# Altium integrated library Atmel Analog Companions.IntLib: 14 symbols
Pins are listed as number, name and electrical type; pins without a type are passive.

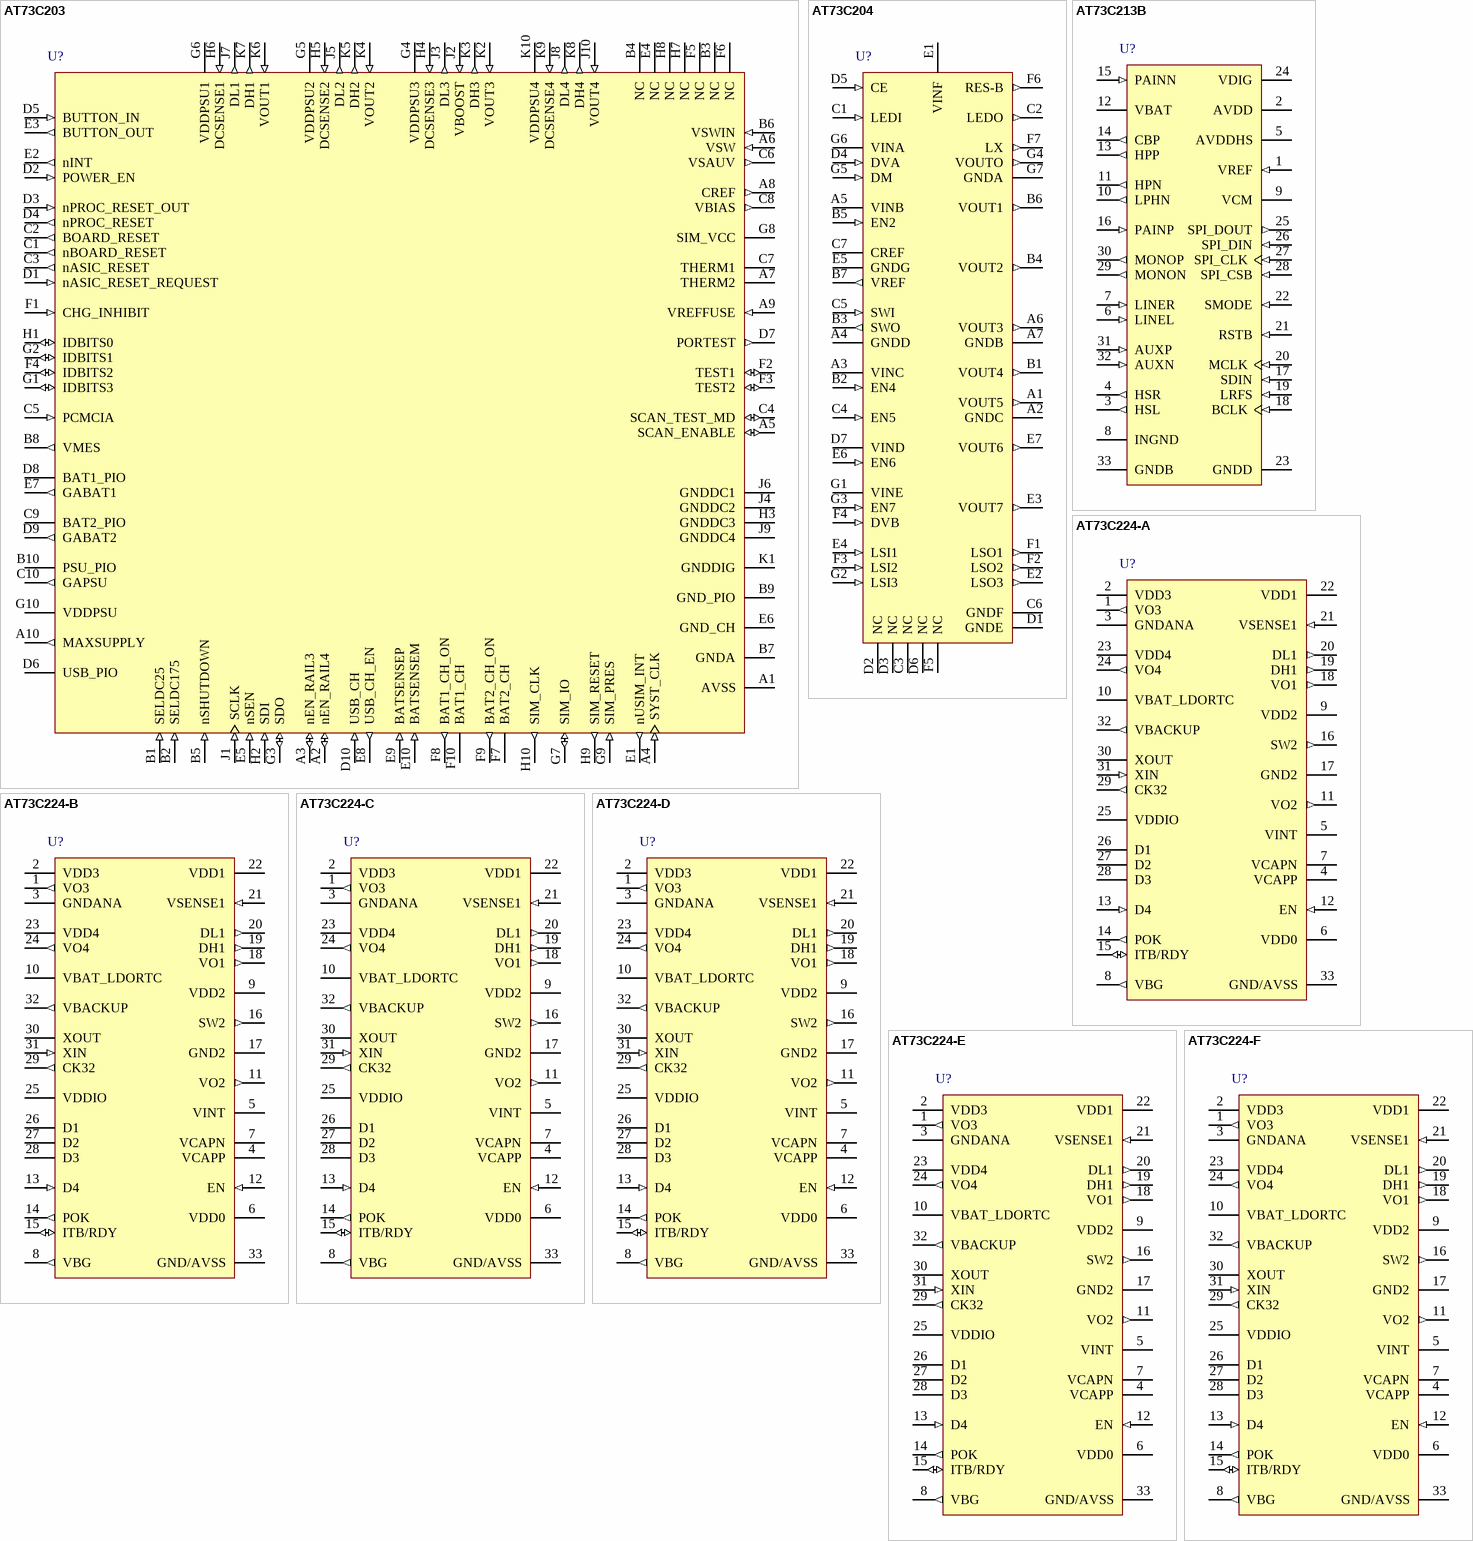
[diagram p0: symbols AT73C203 to AT73C224-F]

## AT73C203
designator U?
Power Management IC for Datacom Platforms, TFBGA100 Pkg; Published: 20-Sep-2010; DatasheetVersion: Mar-2004; PackageVersion: 2004; PackageReference: TFBGA100; Publisher: Altium Limited; PackageDescription: 100-Ball Thin Fine Ball Grid Array, 9 x 9 x1.1 mm Body, 0.80 mm Pitch; Supplier 1: Mouser; Supplier Part Number 1: 556-AT73C203; ComponentLink1Description: Manufacturer Link; ComponentLink1URL: http://www.atmel.com/products/powermanage/default.asp?; ComponentLink2Description: Datasheet; ComponentLink2URL: http://www.atmel.com/dyn/resources/prod_documents/doc2742.pdf; ComponentLink3Description: Atmel.com Home; ComponentLink3URL: http://www.atmel.com
footprint TFBGA100 (BGA, 100-Leads, Body 9x9mm, Pitch 0.8mm)
pins: A1 AVSS (power), A2 nEN_RAIL4 (io), A3 nEN_RAIL3 (io), A4 SYST_CLK (in), A5 SCAN_ENABLE (io), A6 VSW (in), A7 THERM2, A8 CREF (out), A9 VREFFUSE (in), A10 MAXSUPPLY (out), B1 SELDC25 (in), B2 SELDC175 (in), B3 NC, B4 NC, B5 nSHUTDOWN (in), B6 VSWIN (in), B7 GNDA (power), B8 VMES (out), B9 GND_PIO (power), B10 PSU_PIO (power), C1 nBOARD_RESET (out), C2 BOARD_RESET (out), C3 nASIC_RESET (out), C4 SCAN_TEST_MD (io), C5 PCMCIA (in), C6 VSAUV (out), C7 THERM1, C8 VBIAS (out), C9 BAT2_PIO (power), C10 GAPSU (out), D1 nASIC_RESET_REQUEST (in), D2 POWER_EN (in), D3 nPROC_RESET_OUT (in), D4 nPROC_RESET (out), D5 BUTTON_IN (in), D6 USB_PIO (power), D7 PORTEST (out), D8 BAT1_PIO (power), D9 GABAT2 (out), D10 USB_CH (in), E1 nUSIM_INT (out), E2 nINT (out), E3 BUTTON_OUT (out), E4 NC, E5 nSEN (in), E6 GND_CH (power), E7 GABAT1 (out), E8 USB_CH_EN (out), E9 BATSENSEP (in), E10 BATSENSEM (in), F1 CHG_INHIBIT (in), F2 TEST1 (io), F3 TEST2 (io), F4 IDBITS2 (io), F5 NC, F6 NC, F7 BAT2_CH (power), F8 BAT1_CH_ON (out), F9 BAT2_CH_ON (out), F10 BAT1_CH (power), G1 IDBITS3 (io), G2 IDBITS1 (io), G3 SDO (io), G4 VDDPSU3 (power), G5 VDDPSU2 (power), G6 VDDPSU1 (power), G7 SIM_IO (io), G8 SIM_VCC (power), G9 SIM_PRES (in), G10 VDDPSU (power), H1 IDBITS0 (io), H2 SDI (in), H3 GNDDC3 (power), H4 DCSENSE3 (in), H5 DCSENSE2 (in), H6 DCSENSE1 (in), H7 NC, H8 NC, H9 SIM_RESET (out), H10 SIM_CLK (out), J1 SCLK (in), J2 VBOOST (in), J3 DL3 (out), J4 GNDDC2 (power), J5 DL2 (out), J6 GNDDC1 (power), J7 DL1 (out), J8 DL4 (out), J9 GNDDC4 (power), J10 VOUT4 (in), K1 GNDDIG (power), K2 VOUT3 (in), K3 DH3 (out), K4 VOUT2 (in), K5 DH2 (out), K6 VOUT1 (in), K7 DH1 (out), K8 DH4 (out), K9 DCSENSE4 (in), K10 VDDPSU4 (power)

## AT73C204
designator U?
Power Management for Mobiles, TFBGA49 Pkg; Published: 20-Sep-2010; DatasheetVersion: Oct-2003; PackageVersion: 2003; PackageReference: TFBGA49; Publisher: Altium Limited; PackageDescription: 49-Ball Fine-Pitch BGA, 5 x 5 x 1.2 mm Body, 0.65 mm Pitch; Supplier 1: Mouser; Supplier Part Number 1: 556-AT73C204; ComponentLink1Description: Manufacturer Link; ComponentLink1URL: http://www.atmel.com/products/powermanage/default.asp?; ComponentLink2Description: Datasheet; ComponentLink2URL: http://www.atmel.com/dyn/resources/prod_documents/doc6014.pdf; ComponentLink3Description: Atmel.com Home; ComponentLink3URL: http://www.atmel.com
footprint TFBGA49 (BGA, 49-Leads, Body 5x5mm, Pitch 0.65mm)
pins: A1 VOUT5 (out), A2 GNDC (power), A3 VINC (power), A4 GNDD (power), A5 VINB (power), A6 VOUT3 (out), A7 GNDB (power), B1 VOUT4 (out), B2 EN4 (in), B3 SWO (out), B4 VOUT2 (out), B5 EN2 (in), B6 VOUT1 (out), B7 VREF (out), C1 LEDI (in), C2 LEDO (out), C3 NC, C4 EN5 (in), C5 SWI (in), C6 GNDF (power), C7 CREF, D1 GNDE (power), D2 NC, D3 NC, D4 DVA (in), D5 CE (in), D6 NC, D7 VIND (power), E1 VINF (power), E2 LSO3 (out), E3 VOUT7 (out), E4 LSI1 (in), E5 GNDG (power), E6 EN6 (in), E7 VOUT6 (out), F1 LSO1 (out), F2 LSO2 (out), F3 LSI2 (in), F4 DVB (in), F5 NC, F6 RES-B (out), F7 LX (out), G1 VINE (power), G2 LSI3 (in), G3 EN7 (in), G4 VOUTO (out), G5 DM (in), G6 VINA (power), G7 GNDA (power)

## AT73C213B
designator U?
Stereo Audio DAC and Audio Power Amplifier Circuit for Battery Powered Handheld Devices, QFN32 Pkg; Published: 20-Sep-2010; DatasheetVersion: revA, Apr-2008; PackageVersion: 2008; PackageReference: QFN-32; Publisher: Altium Limited; PackageDescription: 32-Pin Quad Flat No-Lead, 7 x 7 x 0.9 mm Body, 0.65 mm Pitch, 5.5 mm Exposed Pad; Supplier 1: Digi-Key; Supplier Part Number 1: AT73C213B-ND; Supplier 2: Mouser; Supplier Part Number 2: 556-AT73C213B; Code_JEDEC: MO-220; ComponentLink1Description: Manufacturer Link; ComponentLink1URL: http://www.atmel.com/products/powermanage/default.asp?; ComponentLink2Description: Datasheet; ComponentLink2URL: http://www.atmel.com/dyn/resources/prod_documents/doc6407.pdf; ComponentLink3Description: Atmel.com Home; ComponentLink3URL: http://www.atmel.com
footprint QFN-32_N (QFN, 32-Leads, Body 7x7 mm, Pitch 0.65mm, IPC Medium Density)
footprint QFN-32_L (QFN, 32-Leads, Body 7x7 mm, Pitch 0.65mm, IPC High Density)
footprint QFN-32_M (QFN, 32-Leads, Body 7x7 mm, Pitch 0.65mm, IPC Low Density)
pins: 1 VREF (in), 2 AVDD (power), 3 HSL (out), 4 HSR (out), 5 AVDDHS (power), 6 LINEL (in), 7 LINER (in), 8 INGND (power), 9 VCM, 10 LPHN (out), 11 HPN (out), 12 VBAT (power), 13 HPP (out), 14 CBP (out), 15 PAINN (in), 16 PAINP (in), 17 SDIN (in), 18 BCLK (in), 19 LRFS (in), 20 MCLK (in), 21 RSTB (in), 22 SMODE (in), 23 GNDD (power), 24 VDIG (power), 25 SPI_DOUT (out), 26 SPI_DIN (in), 27 SPI_CLK (in), 28 SPI_CSB (in), 29 MONON (out), 30 MONOP (out), 31 AUXP (in), 32 AUXN (in), 33 GNDB (power)

## AT73C224-A
designator U?
4 Channel Power Supply with DC/DC Boost, BUCK2=1.8V, LDO4=2.8V, LDO3=2.7V, Dynamic Management Mode, QFN32 Pkg; Published: 20-Sep-2010; DatasheetVersion: revA, Sep-2008; PackageVersion: 2008; PackageReference: RQFN032_H; Publisher: Altium Limited; PackageDescription: 32-Pin Quad Flat No-Lead (QFN) Sawn,  5 x 5 x 0.9 mm Body, Pitch 0.50 mm, 3.50mm Exposed Pad; Supplier 1: Digi-Key; Supplier Part Number 1: AT73C224-A-ND; Supplier 2: Mouser; Supplier Part Number 2: 556-AT73C224-A; ComponentLink1Description: Manufacturer Link; ComponentLink1URL: http://www.atmel.com/products/powermanage/default.asp?; ComponentLink2Description: Datasheet; ComponentLink2URL: http://www.atmel.com/dyn/resources/prod_documents/doc6266.pdf; ComponentLink3Description: Atmel.com Home; ComponentLink3URL: http://www.atmel.com
footprint RQFN032_H_N (QFN, 32-Leads, Body 5x5mm, Pitch 0.5mm, IPC Medium Density)
footprint RQFN032_H_L (QFN, 32-Leads, Body 5x5mm, Pitch 0.5mm, IPC High Density)
footprint RQFN032_H_M (QFN, 32-Leads, Body 5x5mm, Pitch 0.5mm, IPC Low Density)
pins: 1 VO3 (out), 2 VDD3 (power), 3 GNDANA (power), 4 VCAPP, 5 VINT (power), 6 VDD0 (power), 7 VCAPN, 8 VBG (out), 9 VDD2 (power), 10 VBAT_LDORTC (power), 11 VO2 (out), 12 EN (in), 13 D4 (in), 14 POK (out), 15 ITB/RDY (io), 16 SW2 (out), 17 GND2 (power), 18 VO1 (out), 19 DH1 (out), 20 DL1 (out), 21 VSENSE1 (in), 22 VDD1 (power), 23 VDD4 (power), 24 VO4 (out), 25 VDDIO (power), 26 D1 (oc), 27 D2 (oc), 28 D3 (oc), 29 CK32 (out), 30 XOUT, 31 XIN (in), 32 VBACKUP (out), 33 GND/AVSS (power)

## AT73C224-B
designator U?
4 Channel Power Supply with DC/DC Boost, BUCK2=1.2V, LDO4=1.8V, LDO3=1.7V, Dynamic Management Mode, QFN32 Pkg; Published: 20-Sep-2010; DatasheetVersion: revA, Sep-2008; PackageVersion: 2008; PackageReference: RQFN032_H; Publisher: Altium Limited; PackageDescription: 32-Pin Quad Flat No-Lead (QFN) Sawn,  5 x 5 x 0.9 mm Body, Pitch 0.50 mm, 3.50mm Exposed Pad; ComponentLink1Description: Manufacturer Link; ComponentLink1URL: http://www.atmel.com/products/powermanage/default.asp?; ComponentLink2Description: Datasheet; ComponentLink2URL: http://www.atmel.com/dyn/resources/prod_documents/doc6266.pdf; ComponentLink3Description: Atmel.com Home; ComponentLink3URL: http://www.atmel.com
footprint RQFN032_H_N (QFN, 32-Leads, Body 5x5mm, Pitch 0.5mm, IPC Medium Density)
footprint RQFN032_H_L (QFN, 32-Leads, Body 5x5mm, Pitch 0.5mm, IPC High Density)
footprint RQFN032_H_M (QFN, 32-Leads, Body 5x5mm, Pitch 0.5mm, IPC Low Density)
pins: 1 VO3 (out), 2 VDD3 (power), 3 GNDANA (power), 4 VCAPP, 5 VINT (power), 6 VDD0 (power), 7 VCAPN, 8 VBG (out), 9 VDD2 (power), 10 VBAT_LDORTC (power), 11 VO2 (out), 12 EN (in), 13 D4 (in), 14 POK (out), 15 ITB/RDY (io), 16 SW2 (out), 17 GND2 (power), 18 VO1 (out), 19 DH1 (out), 20 DL1 (out), 21 VSENSE1 (in), 22 VDD1 (power), 23 VDD4 (power), 24 VO4 (out), 25 VDDIO (power), 26 D1 (oc), 27 D2 (oc), 28 D3 (oc), 29 CK32 (out), 30 XOUT, 31 XIN (in), 32 VBACKUP (out), 33 GND/AVSS (power)

## AT73C224-C
designator U?
4 Channel Power Supply with DC/DC Boost, LDO4=2.8V, BUCK2=1.8V, LDO3=2.7V, Dynamic Management Mode, QFN32 Pkg; Published: 20-Sep-2010; DatasheetVersion: revA, Sep-2008; PackageVersion: 2008; PackageReference: RQFN032_H; Publisher: Altium Limited; PackageDescription: 32-Pin Quad Flat No-Lead (QFN) Sawn,  5 x 5 x 0.9 mm Body, Pitch 0.50 mm, 3.50mm Exposed Pad; ComponentLink1Description: Manufacturer Link; ComponentLink1URL: http://www.atmel.com/products/powermanage/default.asp?; ComponentLink2Description: Datasheet; ComponentLink2URL: http://www.atmel.com/dyn/resources/prod_documents/doc6266.pdf; ComponentLink3Description: Atmel.com Home; ComponentLink3URL: http://www.atmel.com
footprint RQFN032_H_N (QFN, 32-Leads, Body 5x5mm, Pitch 0.5mm, IPC Medium Density)
footprint RQFN032_H_L (QFN, 32-Leads, Body 5x5mm, Pitch 0.5mm, IPC High Density)
footprint RQFN032_H_M (QFN, 32-Leads, Body 5x5mm, Pitch 0.5mm, IPC Low Density)
pins: 1 VO3 (out), 2 VDD3 (power), 3 GNDANA (power), 4 VCAPP, 5 VINT (power), 6 VDD0 (power), 7 VCAPN, 8 VBG (out), 9 VDD2 (power), 10 VBAT_LDORTC (power), 11 VO2 (out), 12 EN (in), 13 D4 (in), 14 POK (out), 15 ITB/RDY (io), 16 SW2 (out), 17 GND2 (power), 18 VO1 (out), 19 DH1 (out), 20 DL1 (out), 21 VSENSE1 (in), 22 VDD1 (power), 23 VDD4 (power), 24 VO4 (out), 25 VDDIO (power), 26 D1 (oc), 27 D2 (oc), 28 D3 (oc), 29 CK32 (out), 30 XOUT, 31 XIN (in), 32 VBACKUP (out), 33 GND/AVSS (power)

## AT73C224-D
designator U?
4 Channel Power Supply with DC/DC Boost, LDO4=1.8V, BUCK2=1.2V, LDO3=1.8V, Dynamic Management Mode, QFN32 Pkg; Published: 20-Sep-2010; DatasheetVersion: revA, Sep-2008; PackageVersion: 2008; PackageReference: RQFN032_H; Publisher: Altium Limited; PackageDescription: 32-Pin Quad Flat No-Lead (QFN) Sawn,  5 x 5 x 0.9 mm Body, Pitch 0.50 mm, 3.50mm Exposed Pad; ComponentLink1Description: Manufacturer Link; ComponentLink1URL: http://www.atmel.com/products/powermanage/default.asp?; ComponentLink2Description: Datasheet; ComponentLink2URL: http://www.atmel.com/dyn/resources/prod_documents/doc6266.pdf; ComponentLink3Description: Atmel.com Home; ComponentLink3URL: http://www.atmel.com
footprint RQFN032_H_N (QFN, 32-Leads, Body 5x5mm, Pitch 0.5mm, IPC Medium Density)
footprint RQFN032_H_L (QFN, 32-Leads, Body 5x5mm, Pitch 0.5mm, IPC High Density)
footprint RQFN032_H_M (QFN, 32-Leads, Body 5x5mm, Pitch 0.5mm, IPC Low Density)
pins: 1 VO3 (out), 2 VDD3 (power), 3 GNDANA (power), 4 VCAPP, 5 VINT (power), 6 VDD0 (power), 7 VCAPN, 8 VBG (out), 9 VDD2 (power), 10 VBAT_LDORTC (power), 11 VO2 (out), 12 EN (in), 13 D4 (in), 14 POK (out), 15 ITB/RDY (io), 16 SW2 (out), 17 GND2 (power), 18 VO1 (out), 19 DH1 (out), 20 DL1 (out), 21 VSENSE1 (in), 22 VDD1 (power), 23 VDD4 (power), 24 VO4 (out), 25 VDDIO (power), 26 D1 (oc), 27 D2 (oc), 28 D3 (oc), 29 CK32 (out), 30 XOUT, 31 XIN (in), 32 VBACKUP (out), 33 GND/AVSS (power)

## AT73C224-E
designator U?
4 Channel Power Supply with DC/DC Boost, BOOST1=5.2V, LDO4=3.3V, LDO3=3V, Dynamic Management Mode, QFN32 Pkg; Published: 20-Sep-2010; DatasheetVersion: revA, Sep-2008; PackageVersion: 2008; PackageReference: RQFN032_H; Publisher: Altium Limited; PackageDescription: 32-Pin Quad Flat No-Lead (QFN) Sawn,  5 x 5 x 0.9 mm Body, Pitch 0.50 mm, 3.50mm Exposed Pad; ComponentLink1Description: Manufacturer Link; ComponentLink1URL: http://www.atmel.com/products/powermanage/default.asp?; ComponentLink2Description: Datasheet; ComponentLink2URL: http://www.atmel.com/dyn/resources/prod_documents/doc6266.pdf; ComponentLink3Description: Atmel.com Home; ComponentLink3URL: http://www.atmel.com
footprint RQFN032_H_N (QFN, 32-Leads, Body 5x5mm, Pitch 0.5mm, IPC Medium Density)
footprint RQFN032_H_L (QFN, 32-Leads, Body 5x5mm, Pitch 0.5mm, IPC High Density)
footprint RQFN032_H_M (QFN, 32-Leads, Body 5x5mm, Pitch 0.5mm, IPC Low Density)
pins: 1 VO3 (out), 2 VDD3 (power), 3 GNDANA (power), 4 VCAPP, 5 VINT (power), 6 VDD0 (power), 7 VCAPN, 8 VBG (out), 9 VDD2 (power), 10 VBAT_LDORTC (power), 11 VO2 (out), 12 EN (in), 13 D4 (in), 14 POK (out), 15 ITB/RDY (io), 16 SW2 (out), 17 GND2 (power), 18 VO1 (out), 19 DH1 (out), 20 DL1 (out), 21 VSENSE1 (in), 22 VDD1 (power), 23 VDD4 (power), 24 VO4 (out), 25 VDDIO (power), 26 D1 (oc), 27 D2 (oc), 28 D3 (oc), 29 CK32 (out), 30 XOUT, 31 XIN (in), 32 VBACKUP (out), 33 GND/AVSS (power)

## AT73C224-F
designator U?
4 Channel Power Supply with DC/DC Boost, BUCK2=1.8V, LDO4=2.8V, LDO3=2.7V, Static Management Mode, QFN32 Pkg; Published: 20-Sep-2010; DatasheetVersion: revA, Sep-2008; PackageVersion: 2008; PackageReference: RQFN032_H; Publisher: Altium Limited; PackageDescription: 32-Pin Quad Flat No-Lead (QFN) Sawn,  5 x 5 x 0.9 mm Body, Pitch 0.50 mm, 3.50mm Exposed Pad; ComponentLink1Description: Manufacturer Link; ComponentLink1URL: http://www.atmel.com/products/powermanage/default.asp?; ComponentLink2Description: Datasheet; ComponentLink2URL: http://www.atmel.com/dyn/resources/prod_documents/doc6266.pdf; ComponentLink3Description: Atmel.com Home; ComponentLink3URL: http://www.atmel.com
footprint RQFN032_H_N (QFN, 32-Leads, Body 5x5mm, Pitch 0.5mm, IPC Medium Density)
footprint RQFN032_H_L (QFN, 32-Leads, Body 5x5mm, Pitch 0.5mm, IPC High Density)
footprint RQFN032_H_M (QFN, 32-Leads, Body 5x5mm, Pitch 0.5mm, IPC Low Density)
pins: 1 VO3 (out), 2 VDD3 (power), 3 GNDANA (power), 4 VCAPP, 5 VINT (power), 6 VDD0 (power), 7 VCAPN, 8 VBG (out), 9 VDD2 (power), 10 VBAT_LDORTC (power), 11 VO2 (out), 12 EN (in), 13 D4 (in), 14 POK (out), 15 ITB/RDY (io), 16 SW2 (out), 17 GND2 (power), 18 VO1 (out), 19 DH1 (out), 20 DL1 (out), 21 VSENSE1 (in), 22 VDD1 (power), 23 VDD4 (power), 24 VO4 (out), 25 VDDIO (power), 26 D1 (oc), 27 D2 (oc), 28 D3 (oc), 29 CK32 (out), 30 XOUT, 31 XIN (in), 32 VBACKUP (out), 33 GND/AVSS (power)

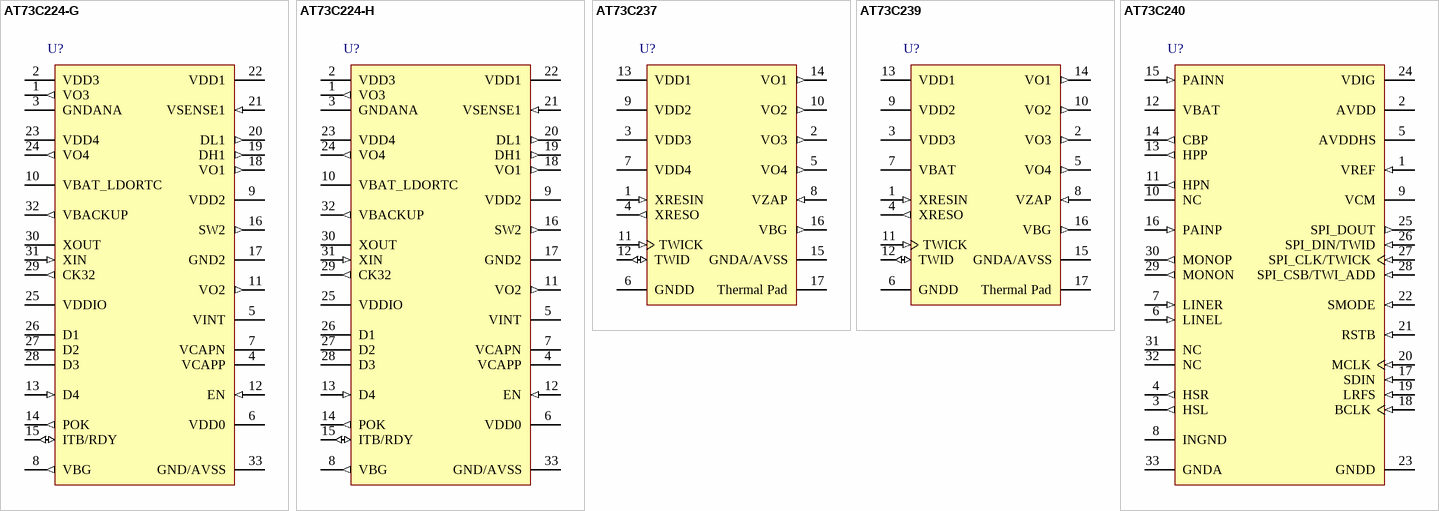
[diagram p1: symbols AT73C224-G to AT73C240]

## AT73C224-G
designator U?
4 Channel Power Supply with DC/DC Boost, LDO4=2.8V, BUCK2=1.8V, LDO3=2.7V, Static Management Mode, QFN32 Pkg; Published: 20-Sep-2010; DatasheetVersion: revA, Sep-2008; PackageVersion: 2008; PackageReference: RQFN032_H; Publisher: Altium Limited; PackageDescription: 32-Pin Quad Flat No-Lead (QFN) Sawn,  5 x 5 x 0.9 mm Body, Pitch 0.50 mm, 3.50mm Exposed Pad; ComponentLink1Description: Manufacturer Link; ComponentLink1URL: http://www.atmel.com/products/powermanage/default.asp?; ComponentLink2Description: Datasheet; ComponentLink2URL: http://www.atmel.com/dyn/resources/prod_documents/doc6266.pdf; ComponentLink3Description: Atmel.com Home; ComponentLink3URL: http://www.atmel.com
footprint RQFN032_H_N (QFN, 32-Leads, Body 5x5mm, Pitch 0.5mm, IPC Medium Density)
footprint RQFN032_H_L (QFN, 32-Leads, Body 5x5mm, Pitch 0.5mm, IPC High Density)
footprint RQFN032_H_M (QFN, 32-Leads, Body 5x5mm, Pitch 0.5mm, IPC Low Density)
pins: 1 VO3 (out), 2 VDD3 (power), 3 GNDANA (power), 4 VCAPP, 5 VINT (power), 6 VDD0 (power), 7 VCAPN, 8 VBG (out), 9 VDD2 (power), 10 VBAT_LDORTC (power), 11 VO2 (out), 12 EN (in), 13 D4 (in), 14 POK (out), 15 ITB/RDY (io), 16 SW2 (out), 17 GND2 (power), 18 VO1 (out), 19 DH1 (out), 20 DL1 (out), 21 VSENSE1 (in), 22 VDD1 (power), 23 VDD4 (power), 24 VO4 (out), 25 VDDIO (power), 26 D1 (oc), 27 D2 (oc), 28 D3 (oc), 29 CK32 (out), 30 XOUT, 31 XIN (in), 32 VBACKUP (out), 33 GND/AVSS (power)

## AT73C224-H
designator U?
4 Channel Power Supply with DC/DC Boost, BOOST1=5.2V, LDO4=3.3V, LDO3=3V, Static Management Mode, QFN32 Pkg; Published: 20-Sep-2010; DatasheetVersion: revA, Sep-2008; PackageVersion: 2008; PackageReference: RQFN032_H; Publisher: Altium Limited; PackageDescription: 32-Pin Quad Flat No-Lead (QFN) Sawn,  5 x 5 x 0.9 mm Body, Pitch 0.50 mm, 3.50mm Exposed Pad; ComponentLink1Description: Manufacturer Link; ComponentLink1URL: http://www.atmel.com/products/powermanage/default.asp?; ComponentLink2Description: Datasheet; ComponentLink2URL: http://www.atmel.com/dyn/resources/prod_documents/doc6266.pdf; ComponentLink3Description: Atmel.com Home; ComponentLink3URL: http://www.atmel.com
footprint RQFN032_H_N (QFN, 32-Leads, Body 5x5mm, Pitch 0.5mm, IPC Medium Density)
footprint RQFN032_H_L (QFN, 32-Leads, Body 5x5mm, Pitch 0.5mm, IPC High Density)
footprint RQFN032_H_M (QFN, 32-Leads, Body 5x5mm, Pitch 0.5mm, IPC Low Density)
pins: 1 VO3 (out), 2 VDD3 (power), 3 GNDANA (power), 4 VCAPP, 5 VINT (power), 6 VDD0 (power), 7 VCAPN, 8 VBG (out), 9 VDD2 (power), 10 VBAT_LDORTC (power), 11 VO2 (out), 12 EN (in), 13 D4 (in), 14 POK (out), 15 ITB/RDY (io), 16 SW2 (out), 17 GND2 (power), 18 VO1 (out), 19 DH1 (out), 20 DL1 (out), 21 VSENSE1 (in), 22 VDD1 (power), 23 VDD4 (power), 24 VO4 (out), 25 VDDIO (power), 26 D1 (oc), 27 D2 (oc), 28 D3 (oc), 29 CK32 (out), 30 XOUT, 31 XIN (in), 32 VBACKUP (out), 33 GND/AVSS (power)

## AT73C237
designator U?
4 Channel Power Management Unit for Wireless Modules, QFN16 Pkg; Published: 20-Sep-2010; DatasheetVersion: revA, Jul-2008; PackageVersion: 2008; PackageReference: QFN16; Publisher: Altium Limited; PackageDescription: 16-Pin Quad Flat No-Lead, 3 x 3 mm Body, 0.5 mm Pitch, 1.9 x 1.9 mm Exposed Pad; Supplier 1: Digi-Key; Supplier Part Number 1: AT73C237-ND; Supplier 2: Mouser; Supplier Part Number 2: 556-AT73C237; ComponentLink1Description: Manufacturer Link; ComponentLink1URL: http://www.atmel.com/products/powermanage/default.asp?; ComponentLink2Description: Datasheet; ComponentLink2URL: http://www.atmel.com/dyn/resources/prod_documents/doc6362.pdf; ComponentLink3Description: Atmel.com Home; ComponentLink3URL: http://www.atmel.com
footprint QFN16_N (QFN, 16-Leads, Body 3x3mm, Pitch 0.5mm, IPC Medium Density)
footprint QFN16_L (QFN, 16-Leads, Body 3x3mm, Pitch 0.5mm, IPC High Density)
footprint QFN16_M (QFN, 16-Leads, Body 3x3mm, Pitch 0.5mm, IPC Low Density)
pins: 1 XRESIN (in), 2 VO3 (out), 3 VDD3 (power), 4 XRESO (out), 5 VO4 (out), 6 GNDD (power), 7 VDD4 (power), 8 VZAP (in), 9 VDD2 (power), 10 VO2 (out), 11 TWICK (in), 12 TWID (io), 13 VDD1 (power), 14 VO1 (out), 15 GNDA/AVSS (power), 16 VBG (out), 17 Thermal Pad (power)

## AT73C239
designator U?
4 Channel Power Management Unit for Wireless Modules, QFN16 Pkg; Published: 20-Sep-2010; DatasheetVersion: revC, Jul-2007; PackageVersion: 2008; PackageReference: QFN16; Publisher: Altium Limited; PackageDescription: 16-Pin Quad Flat No-Lead, 3 x 3 mm Body, 0.5 mm Pitch, 1.9 x 1.9 mm Exposed Pad; Supplier 1: Digi-Key; Supplier Part Number 1: AT73C239-ND; Supplier 2: Mouser; Supplier Part Number 2: 556-AT73C239; ComponentLink1Description: Manufacturer Link; ComponentLink1URL: http://www.atmel.com/products/powermanage/default.asp?; ComponentLink2Description: Datasheet; ComponentLink2URL: http://www.atmel.com/dyn/resources/prod_documents/doc6201.pdf; ComponentLink3Description: Atmel.com Home; ComponentLink3URL: http://www.atmel.com
footprint QFN16_N (QFN, 16-Leads, Body 3x3mm, Pitch 0.5mm, IPC Medium Density)
footprint QFN16_L (QFN, 16-Leads, Body 3x3mm, Pitch 0.5mm, IPC High Density)
footprint QFN16_M (QFN, 16-Leads, Body 3x3mm, Pitch 0.5mm, IPC Low Density)
pins: 1 XRESIN (in), 2 VO3 (out), 3 VDD3 (power), 4 XRESO (out), 5 VO4 (out), 6 GNDD (power), 7 VBAT (power), 8 VZAP (in), 9 VDD2 (power), 10 VO2 (out), 11 TWICK (in), 12 TWID (io), 13 VDD1 (power), 14 VO1 (out), 15 GNDA/AVSS (power), 16 VBG (out), 17 Thermal Pad (power)

## AT73C240
designator U?
Stereo Audio DAC and Audio Power Amplifier Circuit for Battery Powered Handheld Devices, QFN32 Pkg; Published: 20-Sep-2010; DatasheetVersion: revA, Apr-2009; PackageVersion: 2008; PackageReference: RQFN032_H; Publisher: Altium Limited; PackageDescription: 32-Pin Quad Flat No-Lead (QFN) Sawn,  5 x 5 x 0.9 mm Body, Pitch 0.50 mm, 3.50mm Exposed Pad; Supplier 1: Digi-Key; Supplier Part Number 1: AT73C240-ND; Supplier 2: Mouser; Supplier Part Number 2: 556-AT73C240; ComponentLink1Description: Manufacturer Link; ComponentLink1URL: http://www.atmel.com/products/powermanage/default.asp?; ComponentLink2Description: Datasheet; ComponentLink2URL: http://www.atmel.com/dyn/resources/prod_documents/doc6464.pdf; ComponentLink3Description: Atmel.com Home; ComponentLink3URL: http://www.atmel.com
footprint RQFN032_H_N (QFN, 32-Leads, Body 5x5mm, Pitch 0.5mm, IPC Medium Density)
footprint RQFN032_H_L (QFN, 32-Leads, Body 5x5mm, Pitch 0.5mm, IPC High Density)
footprint RQFN032_H_M (QFN, 32-Leads, Body 5x5mm, Pitch 0.5mm, IPC Low Density)
pins: 1 VREF (in), 2 AVDD (power), 3 HSL (out), 4 HSR (out), 5 AVDDHS (power), 6 LINEL (in), 7 LINER (in), 8 INGND (power), 9 VCM, 10 NC, 11 HPN (out), 12 VBAT (power), 13 HPP (out), 14 CBP (out), 15 PAINN (in), 16 PAINP (in), 17 SDIN (in), 18 BCLK (in), 19 LRFS (in), 20 MCLK (in), 21 RSTB (in), 22 SMODE (in), 23 GNDD (power), 24 VDIG (power), 25 SPI_DOUT (out), 26 SPI_DIN/TWID (in), 27 SPI_CLK/TWICK (in), 28 SPI_CSB/TWI_ADD (in), 29 MONON (out), 30 MONOP (out), 31 NC, 32 NC, 33 GNDA (power)